# EAGLE library part 1/4"JACK/STEREO/SWITCHED (library audioint)
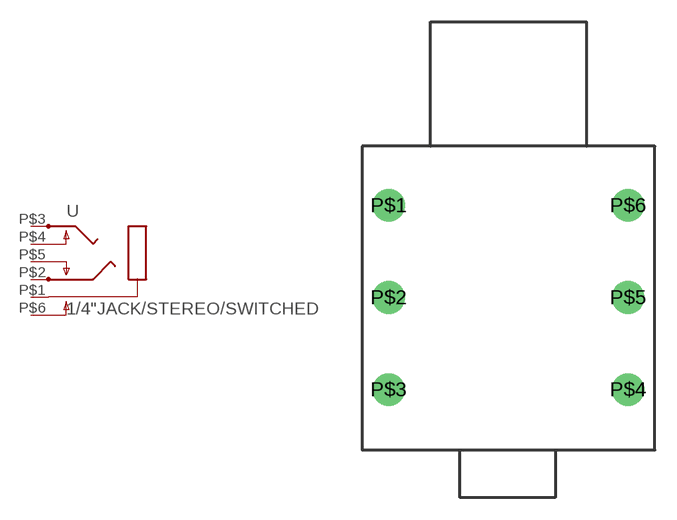
[diagram p3: symbol with the pads of 1/4"JACK/STEREO; footprint 1/4"JACK/STEREO]

Designator prefix -

## 1/4"JACK/STEREO/SWITCHEDNYS-216  [1/4"JACK/STEREO]
P$1  1  pas
P$2  2  pas
P$3  5  pas
P$4  4  pas
P$5  3  pas
P$6  6  pas

## Footprint 1/4"JACK/STEREO (pad centres in mm)
drill 1.499 round: P$1 -8.255,-4.191; P$2 -8.255,-10.541; P$3 -8.255,-16.891; P$4 8.255,-16.891; P$5 8.255,-10.541; P$6 8.255,-4.191